# Altium schematic symbol library Batteries.SchLib: 1 symbol
Pins are listed as number, name and electrical type; pins without a type are passive.

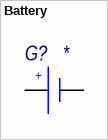
[diagram p0: symbol Battery]

## Battery
designator G?
Voltage: *; Name: *
footprint 18650_with_contacts
footprint 18650_with_contacts
pins: 1 (power), 2 (power)
text: +